# Altium schematic symbol library Schlib1.SchLib: 5 symbols
Pins are listed as number, name and electrical type; pins without a type are passive.

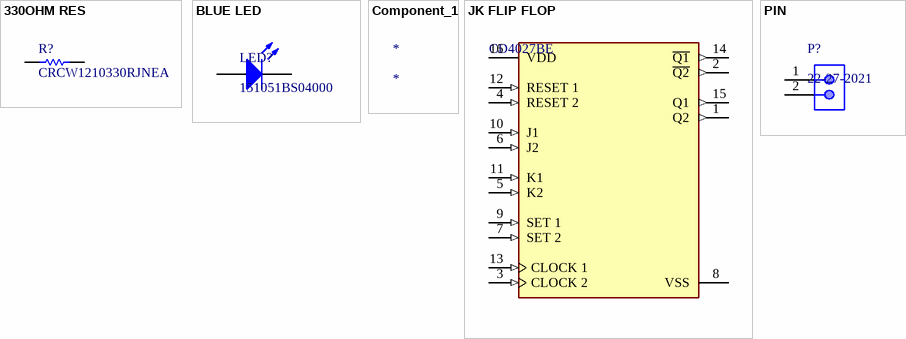
[diagram p0: symbols 330OHM RES to PIN]

## 330OHM RES
designator R?, comment CRCW1210330RJNEA
Manufacturer: Vishay Dale; Part Number: CRCW1210330RJNEA
footprint 330OHM RES (Chip Resistor, 2-Leads, Body 3.20x2.50mm, IPC High Density)
pins: 1, 2
1 alternate drawing of the same symbol

## BLUE LED
designator LED?, comment 151051BS04000
THT LED round mono-color color lens, WL-TMRW, Blue; Manufacturer: Wuerth Elektronik; PackageReference: Type 5mm; ComponentLink2Description: Datasheet; ComponentLink1Description: Manufacturer URL; Emitting color: Blue; ComponentLink1URL: http://www.we-online.com; PartNumber: 151051BS04000; ComponentLink2URL: http://katalog.we-online.de/pbs/datasheet/7448042001.pdfhttp://katalog.we-online.de/pbs/datasheet/7448042001.pdfhttp://katalog.we-online.de/pbs/datasheet/7448042001.pdfhttp://katalog.we-online.de/pbs/datasheet/151051BS04000.pdf
footprint BLUE LED (THT, LED-5mm, 2pin- Body 5.8mm)
pins: 1 K, 2 A

## Component_1
designator *

## JK FLIP FLOP
designator ?, comment CD4027BE
IC FF JK TYPE DUAL 1BIT 16DIP; Min Supply Voltage: 3V; Input Type: SINGLE-ENDED; Clock Edge Trigger Type: Positive Edge; Output Current: 6.8mA; Polarity: Non-Inverting; High Level Output Current: -4.2mA; Number of Bits per Element: 1; Input Capacitance: 5pF; Operating Supply Voltage: 3.3V; Logic Function: Flip-Flop; Low Level Output Current: 4.2mA; Number of Circuits: 2; Max Frequency: 24MHz; Turn-On Delay Time: 45ns; Propagation Delay: 300ns; Quiescent Current: 20uA; Max Supply Voltage: 18V; Power Dissipation: 500mW; Lead Free: Lead Free; Technology: CMOS; Radiation Hardening: No; Width: 6.35mm; Packaging: Rail/Tube; Height: 4.57mm; Number of Pins: 16; RoHS Compliant: Yes; Contact Plating: Gold; Length: 19.3mm; Number of Elements: 2; Max Operating Temperature: 125°C; Number of Input Lines: 2; Package Quantity: 25; REACH SVHC: No SVHC; Weight: 0.03357oz; Number of Bits: 2; Mount: Through Hole; Min Operating Temperature: -55°C; Number of Output Lines: 1; Case/Package: PDIP; Frequency: 24MHz; Series: 4000B
footprint JK FLIP FLOP
pins: 1 Q2 (out), 2 ~{Q2} (out), 3 CLOCK 2 (in), 4 RESET 2 (in), 5 K2 (in), 6 J2 (in), 7 SET 2 (in), 8 VSS (power), 9 SET 1 (in), 10 J1 (in), 11 K1 (in), 12 RESET 1 (in), 13 CLOCK 1 (in), 14 ~{Q1} (out), 15 Q1 (out), 16 VDD (power)

## PIN
designator P?, comment 22-27-2021
Male Header, Pitch 2.54 mm, 1 x 2 Position, Height 11.7 mm, Tail Length 3.56 mm, 0 to 75 degC, RoHS, Bulk; Manufacturer: Molex; PartNumber: 0022272021; Current rating: 4A; Package Version: Rev. BC, 02/2012; Voltage rating: 250V; No. of Positions: 2; Pitch: 2.54mm; No. of Rows: 1; Orientation: Vertical; Operating temperature: 0°Cto+75°C; Manufacturer URL: http://www.molex.com/; Mounting Technology: ThroughHole; Housing material: Nylon(UL94V-0); Package Description: 2-Leads Header, Body 5.08 x 5.8 mm, Pitch 2.54 mm; Voltage - Max: 250V; Datasheet URL: http://www.molex.com/pdm_docs/sd/022272021_sd.pdf; Package Reference: 22-27-2021; Contact material: Tinplatedbrass; Current - Max: 4A; Datasheet Version: Rev. F, 06/2009
footprint PIN (Header, 2-Leads, Body 5.8x5.08mm)
pins: 1, 2